# EAGLE library part PRO-MINI-MINUS-HEADERS (library Arduino-clone-custom)
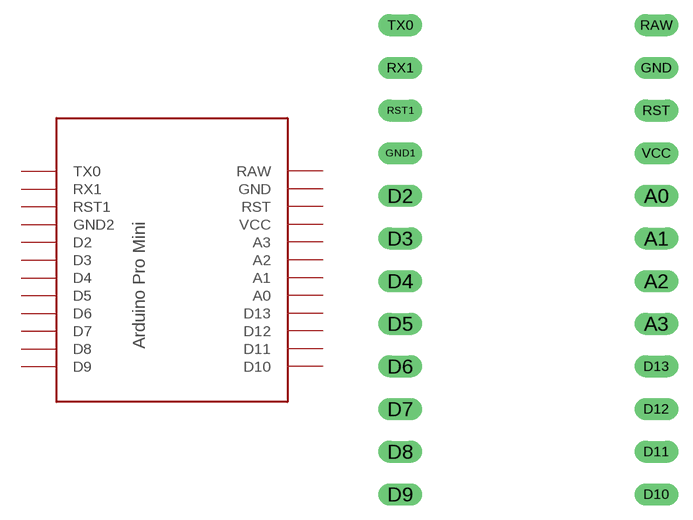
[diagram p5: symbol with the pads of PRO-MINI-2-NO-HEADERS; footprint PRO-MINI-2-NO-HEADERS]

Designator prefix -

## PRO-MINI-MINUS-HEADERS  [PRO-MINI-2-NO-HEADERS]
A0  A0
A1  A1
A2  A2
A3  A3
D2  D2
D3  D3
D4  D4
D5  D5
D6  D6
D7  D7
D8  D8
D9  D9
D10  D10
D11  D11
D12  D12
D13  D13
GND  GND
GND1  GND2
RAW  RAW
RST  RST
RST1  RST1
RX1  RX1
TX0  TX0
VCC  VCC

## PRO-MINI-MINUS-HEADERSPRO-NINI-NO-HEADERS  [PRO-MINI-2-NO-HEADERS]

## Footprint PRO-MINI-2-NO-HEADERS (pad centres in mm)
drill 0.8 long: A0 6.35,2.54; A1 6.35,0; A2 6.35,-2.54; A3 6.35,-5.08; D2 -8.89,2.54; D3 -8.89,0; D4 -8.89,-2.54; D5 -8.89,-5.08; D6 -8.89,-7.62; D7 -8.89,-10.16; D8 -8.89,-12.7; D9 -8.89,-15.24; D10 6.35,-15.24; D11 6.35,-12.7; D12 6.35,-10.16; D13 6.35,-7.62; GND 6.35,10.16; GND1 -8.89,5.08; RAW 6.35,12.7; RST 6.35,7.62; RST1 -8.89,7.62; RX1 -8.89,10.16; TX0 -8.89,12.7; VCC 6.35,5.08